# Altium schematic symbol library SCH - DIODES - RGB LED Citizen CL-505.SCHLIB: 1 symbol
Pins are listed as number, name and electrical type; pins without a type are passive.

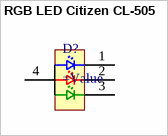
[diagram p0: symbol RGB LED Citizen CL-505]

## RGB LED Citizen CL-505
designator D?
*
pins: 1 C1, 2 C2, 3 C3, 4 A3